# Altium schematic symbol library TO-277.SchLib: 1 symbol
Pins are listed as number, name and electrical type; pins without a type are passive.

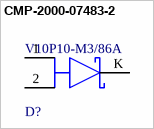
[diagram p0: symbol CMP-2000-07483-2]

## CMP-2000-07483-2
designator D?, comment V10P10-M3/86A
DIODE SCHOTTKY 100V 10A TO277A; Manufacturer: Vishay; Max Junction Temp: +175°C; Max Surge Forward Current: 180A; Peak Reverse Current: 30.4uA; Digikey Description: DIODE SCHOTTKY 100V 10A TO277A; Manufacturer Part Number: V10P10-M3/86A; Device Class L1: Discrete Semiconductors; ComponentLink2Description: Datasheet; Reverse Voltage: 100V; Device Class L2: Diodes; Temperature Range Low: -40°C; Automotive: No; Package: 95570; Mouser Description: Diode Schottky 100V 10A 3-Pin(2+Tab) SMPC T/R; Lead Free: Yes; Footprint Url: https://www.vishay.com/docs/95570/to-277asmpc.pdf; Octopart: https://octopart.com/v10p10-m3%2F86a-vishay-42522004; Forward Current: 10A; Device Class L3: Schottky Diodes; RoHS: TRUE; Temperature Range High: +175°C; Temperature: -40°C to +175°C; ComponentLink2URL: http://www.vishay.com/docs/89006/v10p10.pdf; Category: Diode; Max Repetitive Reverse Voltage: 100V; Height: 1.2mm
footprint FP-95570-MFG
pins: 1 A, 2 A, K C